# EAGLE library part M34552(48PIN) (library renesas_mcu)
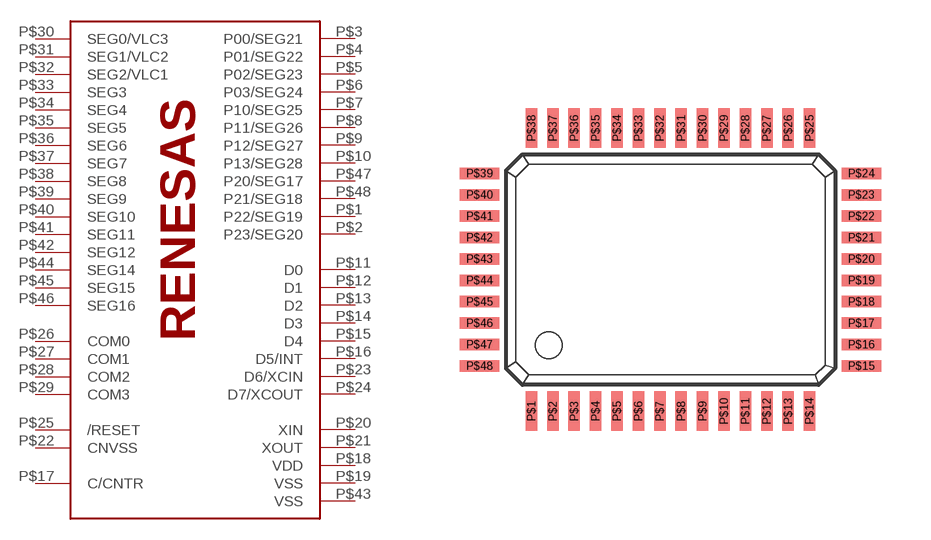
[diagram p54: symbol with the pads of 48P6S-A; footprint 48P6S-A]

Designator prefix IC

## M34552(48PIN)  [48P6S-A]
P$1  P22/SEG19  out
P$2  P23/SEG20  out
P$3  P00/SEG21
P$4  P01/SEG22
P$5  P02/SEG23
P$6  P03/SEG24
P$7  P10/SEG25
P$8  P11/SEG26
P$9  P12/SEG27
P$10  P13/SEG28
P$11  D0  out
P$12  D1  out
P$13  D2  out
P$14  D3  out
P$15  D4  out
P$16  D5/INT
P$17  C/CNTR
P$18  VDD  pwr
P$19  VSS  pwr
P$20  XIN  in
P$21  XOUT  out
P$22  CNVSS
P$23  D6/XCIN
P$24  D7/XCOUT  out
P$25  /RESET
P$26  COM0  out
P$27  COM1  out
P$28  COM2  out
P$29  COM3  out
P$30  SEG0/VLC3  out
P$31  SEG1/VLC2  out
P$32  SEG2/VLC1  out
P$33  SEG3  out
P$34  SEG4  out
P$35  SEG5  out
P$36  SEG6  out
P$37  SEG7  out
P$38  SEG8  out
P$39  SEG9  out
P$40  SEG10  out
P$41  SEG11  out
P$42  SEG12  out
P$43  VSS  pwr
P$44  SEG14  out
P$45  SEG15  out
P$46  SEG16  out
P$47  P20/SEG17  out
P$48  P21/SEG18  out

## Footprint 48P6S-A (pad centres in mm)
smd 0.35 x 1.2: P$1 -4.225,-4.3; P$2 -3.575,-4.3; P$3 -2.925,-4.3; P$4 -2.275,-4.3; P$5 -1.625,-4.3; P$6 -0.975,-4.3; P$7 -0.325,-4.3; P$8 0.325,-4.3; P$9 0.975,-4.3; P$10 1.625,-4.3; P$11 2.275,-4.3; P$12 2.925,-4.3; P$13 3.575,-4.3; P$14 4.225,-4.3; P$25 4.225,4.3; P$26 3.575,4.3; P$27 2.925,4.3; P$28 2.275,4.3; P$29 1.625,4.3; P$30 0.975,4.3; P$31 0.325,4.3; P$32 -0.325,4.3; P$33 -0.975,4.3; P$34 -1.625,4.3; P$35 -2.275,4.3; P$36 -2.925,4.3; P$37 -3.575,4.3; P$38 -4.225,4.3
smd 1.2 x 0.35: P$15 5.8,-2.925; P$16 5.8,-2.275; P$17 5.8,-1.625; P$18 5.8,-0.975; P$19 5.8,-0.325; P$20 5.8,0.325; P$21 5.8,0.975; P$22 5.8,1.625; P$23 5.8,2.275; P$24 5.8,2.925; P$39 -5.8,2.925; P$40 -5.8,2.275; P$41 -5.8,1.625; P$42 -5.8,0.975; P$43 -5.8,0.325; P$44 -5.8,-0.325; P$45 -5.8,-0.975; P$46 -5.8,-1.625; P$47 -5.8,-2.275; P$48 -5.8,-2.925